# Altium footprint library asib.PcbLib: 3 footprints
Each footprint in its own frame and in the unit in brackets; x right, y up, seen from the top. Pads: shape width x height; smd on the part's side, far side on the other; paste and mask are expansions set on the pad; w line width, h text height; cw(c..) or ccw(c..) is an arc to the next point about the centre after c.
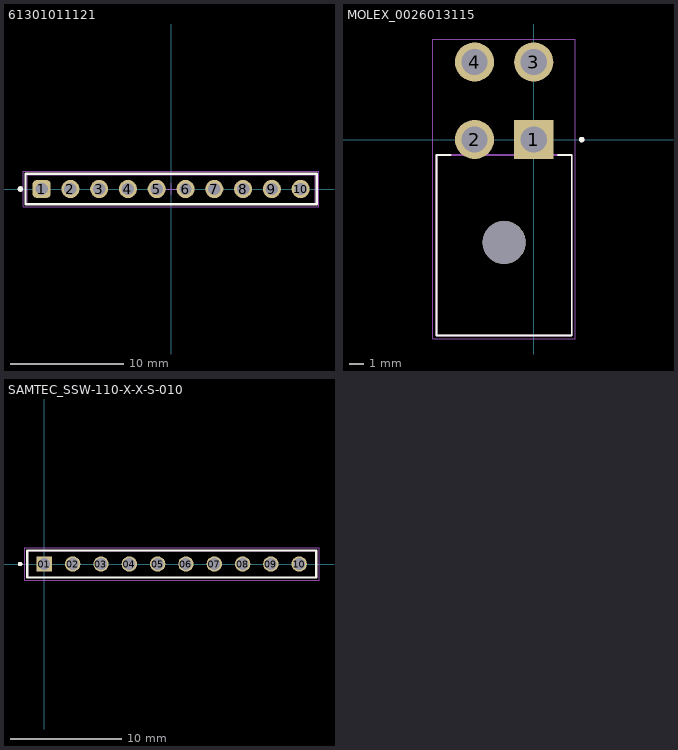
[diagram p0: the footprints below, top view; thin cyan lines are the x and y axes]

## 61301011121 [mm] "Pin Header, pitch 2.54 mm, THT, Vertical, single row, 10p"
height 8.54
pads (10):
  rrect50% 1.6x1.6 hole 1.1: 1(-11.43,0)
  round 1.6 hole 1.1: 2(-8.89,0) 3(-6.35,0) 4(-3.81,0) 5(-1.27,0) 6(1.27,0) 7(3.81,0) 8(6.35,0) 9(8.89,0) 10(11.43,0)
Top Overlay:
  circle w0.25: c-13.3,0 r0.125
  lines w0.2: -12.85,-1.345 -12.85,1.345 12.85,1.345 12.85,-1.345 -12.85,-1.345
Top Designator:
  text ".Designator" at -7.498,-0.5 h1.5
Top Component Outline:
  lines w0.1: -12.7,-1.27 12.7,-1.27 12.7,1.27 -12.7,1.27 -12.7,-1.27
Top Courtyard:
  lines w0.05: -13.05,-1.545 13.05,-1.545 13.05,1.545 -13.05,1.545 -13.05,-1.545
Top Component Center:
  lines w0.05: -0.5,0 0.5,0 ; 0,-0.5 0,0.5
3D body "61301011121.stp": height 8.57, standoff -2.97, extent -12.7,-1.27 12.7,1.27

## MOLEX_0026013115 [mm]
pads (5):
  rect 2.775x2.775 hole 1.85: 1(0,0)
  round 2.775 hole 1.85: 2(-4.2,0) 3(0,5.5) 4(-4.2,5.5)
  round 3.05 hole 3.05 unplated: ""(-2.1,-7.3)
Top Overlay:
  circle w0.2: c3.4,0 r0.1
  lines w0.127: -5.91,-1.1 -6.9,-1.1 -6.9,-13.9 2.7,-13.9 2.7,-1.1 1.71,-1.1
Top 3D Body:
  circle w0.2: c3.4,0 r0.1
  lines w0.127: -6.9,-13.9 -6.9,-1.1 2.7,-1.1 2.7,-13.9 -6.9,-13.9
Top Courtyard:
  lines w0.05: -7.15,-14.15 -7.15,7.14 2.95,7.14 2.95,-14.15 -7.15,-14.15

## SAMTEC_SSW-110-X-X-S-010 [mm]
pads (10):
  rect 1.39x1.39 / inner round 1.39 / far side rect 1.39x1.39 hole 1.04: 01(0,0)
  round 1.39 hole 1.04: 02(2.54,0) 03(5.08,0) 04(7.62,0) 05(10.16,0) 06(12.7,0) 07(15.24,0) 08(17.78,0) 09(20.32,0) 10(22.86,0)
Top Overlay:
  circle w0.2: c-2.175,0 r0.1
  lines w0.2: -1.525,-1.206 24.385,-1.206 24.385,1.206 -1.525,1.206 -1.525,-1.206
Top 3D Body:
  circle w0.2: c-2.175,0 r0.1
  lines w0.1: -1.525,-1.206 -1.525,1.206 ; -1.525,-1.206 24.385,-1.206 ; -1.525,-1.206 -1.525,1.206 ; -1.525,1.206 24.385,1.206 ; -1.525,1.206 24.385,1.206 ; 24.385,-1.206 24.385,1.206 ; 24.385,-1.206 24.385,1.206
Top Courtyard:
  lines w0.05: -1.775,-1.456 24.635,-1.456 24.635,1.456 -1.775,1.456 -1.775,-1.456